# Altium schematic symbol library ICW62081_ICW6208.schdoc.SCHLIB: 1 symbol
Pins are listed as number, name and electrical type; pins without a type are passive.

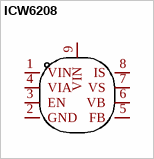
[diagram p0: symbol ICW6208]

## ICW6208
designator U??  (value not drawn)
Add into BOM: yes; Symbol: ICW6208; Device: ICW6208; Supplier: LCSC; Supplier Part: C5448775; Manufacturer Part: ICW6208; JLCPCB Part Class: Extended Part; LCSC Part Name: ICW6208; Supplier Footprint: ESOP-8; Datasheet: https://atta.szlcsc.com/upload/public/pdf/source/20230613/A8AD911CFB7BA22FB46A84D77D648079.pdf; Convert to PCB: yes
footprint ESOP-8_L4.9-W3.9-P1.27-LS6.0-TL-EP3.3
pins: 1 VIN, 2 GND, 3 EN, 4 VIA, 5 FB, 6 VB, 7 VS, 8 IS, 9 VIN